# EAGLE library part TECHISCOOL_10W_RGB_LED (library Outline)
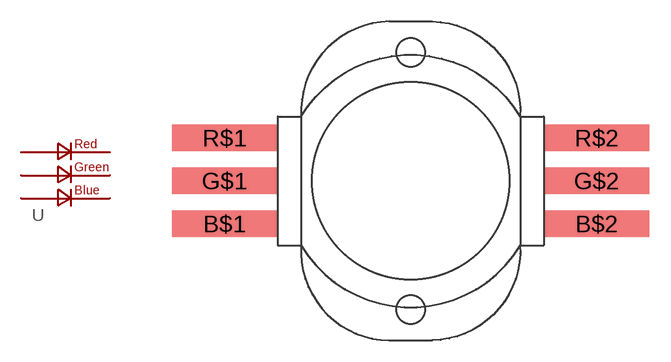
[diagram p1: symbol with the pads of TECHISCOOL_10W_RGB_LED; footprint TECHISCOOL_10W_RGB_LED]

Designator prefix -

## TECHISCOOL_10W_RGB_LED  [TECHISCOOL_10W_RGB_LED]
B$1  B$1
B$2  B$2
G$1  G$1
G$2  G$2
R$1  R$1
R$2  R$2

## Footprint TECHISCOOL_10W_RGB_LED (pad centres in mm)
10W RGB Led from Satisled | http://www.satisled.com/10w-9w-rgb-led-emitter-3w-for-each-color_p236.html
smd 7.3 x 1.85: B$1 -13,-3; B$2 13,-3; G$1 -13,0; G$2 13,0; R$1 -13,3; R$2 13,3